# Altium footprint library ReceiverLoRa.PcbLib: 17 footprints (part 1 of 2)
Each footprint in its own frame and in the unit in brackets; x right, y up, seen from the top. Pads: shape width x height; smd on the part's side, far side on the other; paste and mask are expansions set on the pad; w line width, h text height; cw(c..) or ccw(c..) is an arc to the next point about the centre after c.
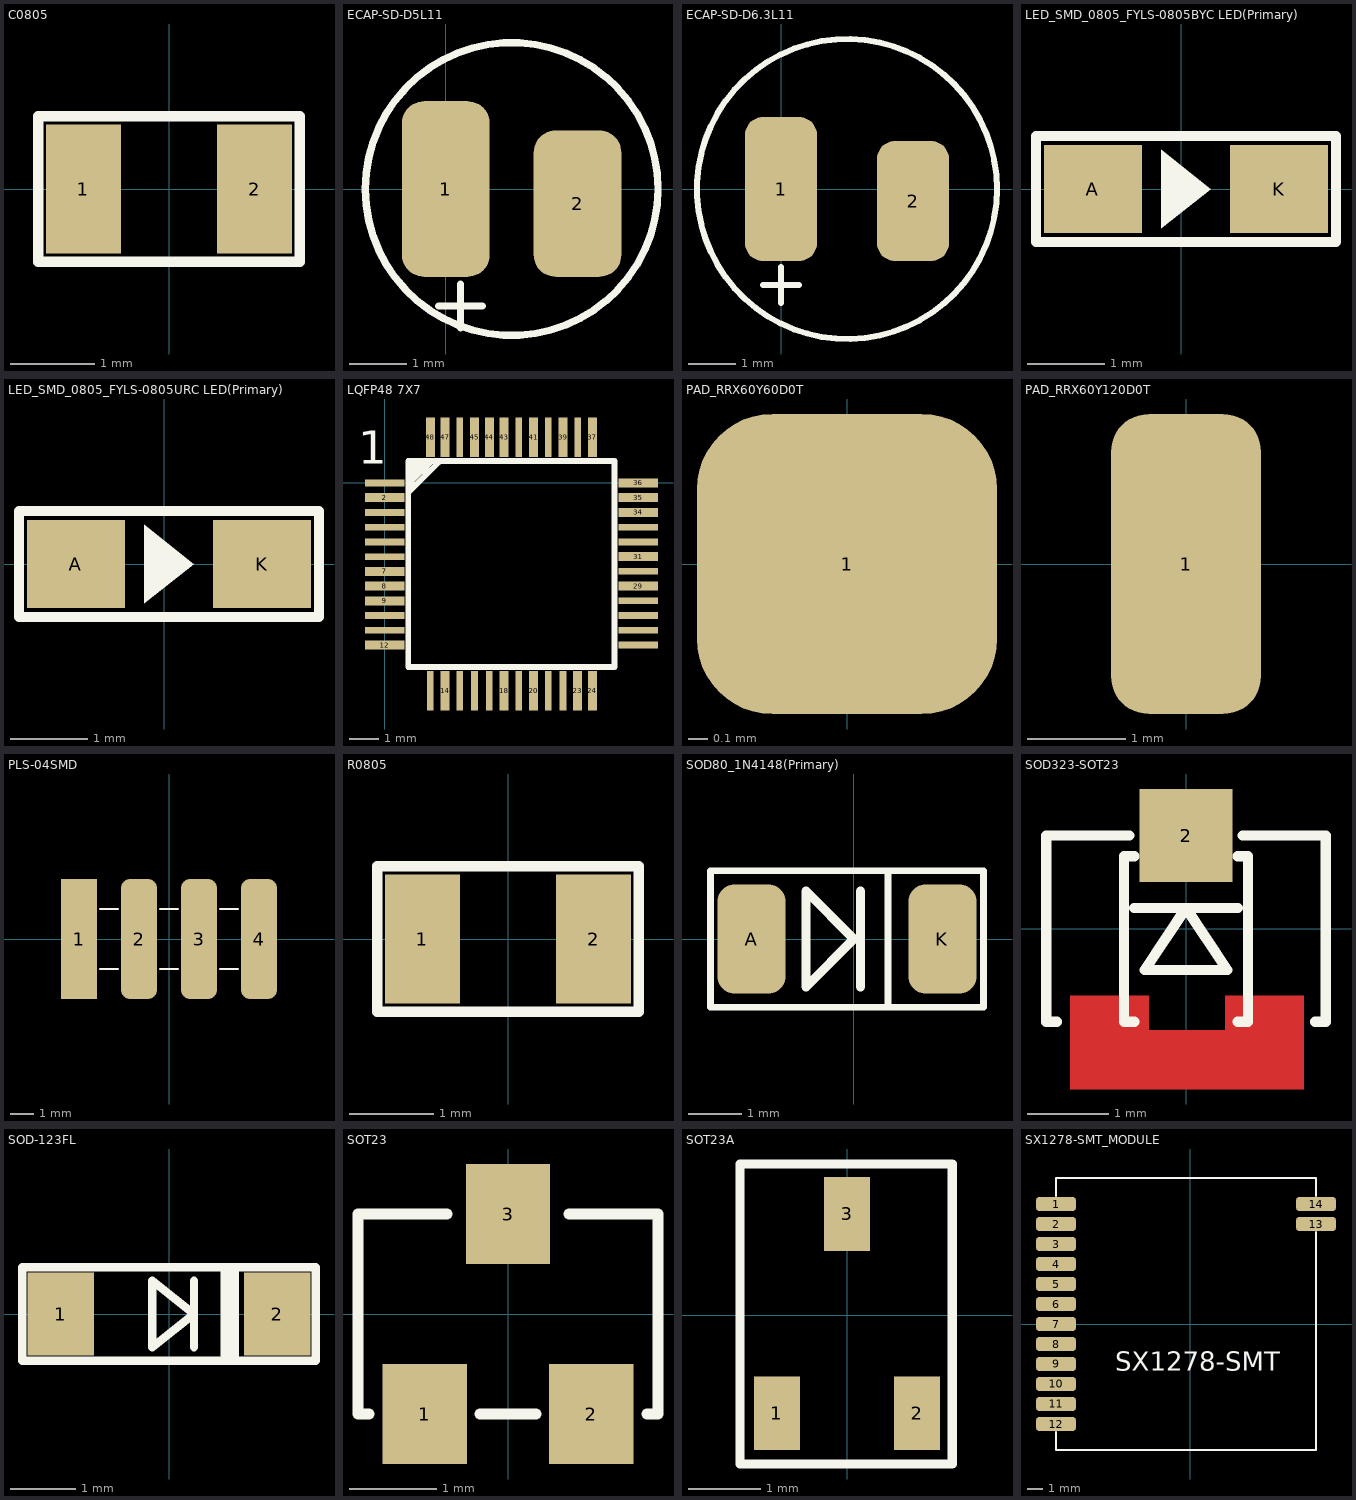
[diagram p0: the footprints below, top view; thin cyan lines are the x and y axes]

## C0805 [mil]
pads (2):
  rect 35x60 smd: 1(-40,0) 2(40,0)
Top Overlay:
  lines w5: -61,-34 61,-34 61,34 -61,34 -61,-33

## ECAP-SD-D5L11 [mil]
pads (2):
  rrect50% 60x120 smd: 1(0,0)
  rrect50% 60x100 smd: 2(90,-10)
Top Overlay:
  circle w5: c45,0 r100
  lines w5: -5,-80 25,-80 ; 10,-95 10,-65

## ECAP-SD-D6.3L11 [mil]
pads (2):
  rrect50% 60x120 smd: 1(0,0)
  rrect50% 60x100 smd: 2(110,-10)
Top Overlay:
  circle w5: c55,0 r125
  lines w5: -15,-80 15,-80 ; 0,-95 0,-65

## LED_SMD_0805_FYLS-0805BYC LED(Primary) [mil]
pads (2):
  rect 50x45 smd: A(-45,0) K(50,0)
Top Overlay:
  region: -10,20 -10,-20 15,0
  lines w5: -74,26 -74,-27 78,-27 ; -74,27 79,27 79,-27

## LED_SMD_0805_FYLS-0805URC LED(Primary) [mil]
pads (2):
  rect 50x45 smd: A(-45,0) K(50,0)
Top Overlay:
  region: -10,20 -10,-20 15,0
  lines w5: -74,26 -74,-27 78,-27 ; -74,27 79,27 79,-27

## LQFP48 7X7 [mil]
pads (48):
  rect 53x9 smd: 1(0,0) 3(0,-39.37) 4(0,-59.06) 5(0,-78.74) 6(0,-98.43) 10(0,-177.17) 11(0,-196.85) 25(338.58,-216.54) 26(338.58,-196.85) 27(338.58,-177.17) 28(338.58,-157.48) 30(338.58,-118.11) 32(338.58,-78.74) 33(338.58,-59.06)
  rect 53x12 smd: 2(0,-19.68) 7(0,-118.11) 8(0,-137.8) 9(0,-157.48) 12(0,-216.54) 29(338.58,-137.8) 31(338.58,-98.43) 34(338.58,-39.37) 35(338.58,-19.68) 36(338.58,0)
  rect 9x53 smd: 13(61.02,-277.56) 15(100.39,-277.56) 16(120.08,-277.56) 17(139.76,-277.56) 19(179.13,-277.56) 21(218.5,-277.56) 22(238.19,-277.56) 38(257.87,61.02) 40(218.5,61.02) 42(179.13,61.02) 46(100.39,61.02)
  rect 12x53 smd: 14(80.71,-277.56) 18(159.45,-277.56) 20(198.82,-277.56) 23(257.87,-277.56) 24(277.56,-277.56) 37(277.56,61.02) 39(238.19,61.02) 41(198.82,61.02) 43(159.45,61.02) 44(139.76,61.02) 45(120.08,61.02) 47(80.71,61.02) 48(61.02,61.02)
Top Overlay:
  lines w7.87: 31.5,19.68 41.34,29.53 ; 32.28,-0.79 62.2,28.74 ; 32.28,9.84 52.76,29.53 ; 32.68,-11.02 72.44,27.95 ; 31.5,-246.06 31.5,29.53 307.09,29.53 307.09,-246.06 31.5,-246.06
  text "1" at -35.66,25.58 h43.75

## PAD_RRX60Y60D0T [mil]
pads (1):
  rrect50% 60x60 smd: 1(0,0)

## PAD_RRX60Y120D0T [mil]
pads (1):
  rrect50% 60x120 smd: 1(0,0)

## PLS-04SMD [mil]
pads (4):
  rect 60x200 smd: 1(-150,0)
  rrect50% 60x200 smd: 2(-50,0) 3(50,0) 4(150,0)
Top Overlay:
  lines w4: -115,-50 -85,-50 ; -115,50 -85,50 ; -15,-50 15,-50 ; -15,50 15,50 ; 85,-50 115,-50 ; 85,50 115,50

## R0805 [mil]
pads (2):
  rect 35x60 smd: 1(-40,0) 2(40,0)
Top Overlay:
  lines w5: -61,-34 61,-34 61,34 -61,34 -61,-33

## SOD80_1N4148(Primary) [mil]
pads (2):
  rrect50% 50x80 smd: A(-75,0) K(65,0)
Top Overlay:
  lines w5: 25,-50 25,50 ; -105,-50 -105,50 95,50 95,-50 -105,-50
  lines w6.69: 5,-35 5,35 ; -35,-35 -35,35 0,0 -35,-35

## SOD323-SOT23 [mil]
pads (2):
  round 0 smd paste-1000 mask-1000: 1(0,-61.5)
  rect 45x45 smd: 2(0,45)
Top Layer:
  region: -56,-77.5 19,-77.5 57,-77.5 57,-32.5 19,-32.5 19,-49 -18,-49 -18,-32.5 -56,-32.5
Top Overlay:
  lines w5: -62.5,-45 -67.5,-45 -67.5,45 -27.5,45 ; -25,-45 -30,-45 -30,35 -25,35 ; -25,10 25,10 ; 25,-45 30,-45 30,35 25,35 ; 27.5,45 67.5,45 67.5,-45 62.5,-45 ; -20,-20 20,-20 0,10 -20,-20

## SOD-123FL [mil]
pads (2):
  rect 40x50 smd: 1(-65,0) 2(65,0)
Top Overlay:
  region: 31,-26 42,-26 42,27 31,27
  lines w5: 15,-20 15,20 ; -88,-28 -88,28 88,28 88,-28 -88,-28 ; -10,-20 -10,20 15,0 -10,-20

## SOT23 [mil]
pads (3):
  rect 38x45 smd: 1(-37.5,-45) 2(37.5,-45) 3(0,45)
Top Overlay:
  lines w5: -62.5,-45 -67.5,-45 -67.5,45 -27.5,45 ; -12.5,-45 12.5,-45 ; 27.5,45 67.5,45 67.5,-45 62.5,-45

## SOT23A [mil]
pads (3):
  rect 25x40 smd: 1(-38,-53) 2(38,-53) 3(0,55)
Top Overlay:
  lines w5: -58,-80.5 57,-80.5 57,82 -58,82 -58,-80.5

## SX1278-SMT_MODULE [mil]
pads (14):
  rrect50% 100x36 smd: 1(-335,300) 2(-335,250) 3(-335,200) 4(-335,150) 5(-335,100) 6(-335,50) 7(-335,0) 8(-335,-50) 9(-335,-100) 10(-335,-150) 11(-335,-200) 12(-335,-250) 13(315,250) 14(315,300)
Top Overlay:
  lines w5: -335,-270 -335,-315 315,-315 315,230 ; -335,320 -335,365 315,365 315,320
  text "SX1278-SMT" at -187.19,-117.19 h47.24